# Altium footprint library BGA24C100P5X5_600X800X120.PcbLib: 1 footprints
Each footprint in its own frame and in the unit in brackets; x right, y up, seen from the top. Pads: shape width x height; smd on the part's side, far side on the other; paste and mask are expansions set on the pad; w line width, h text height; cw(c..) or ccw(c..) is an arc to the next point about the centre after c.
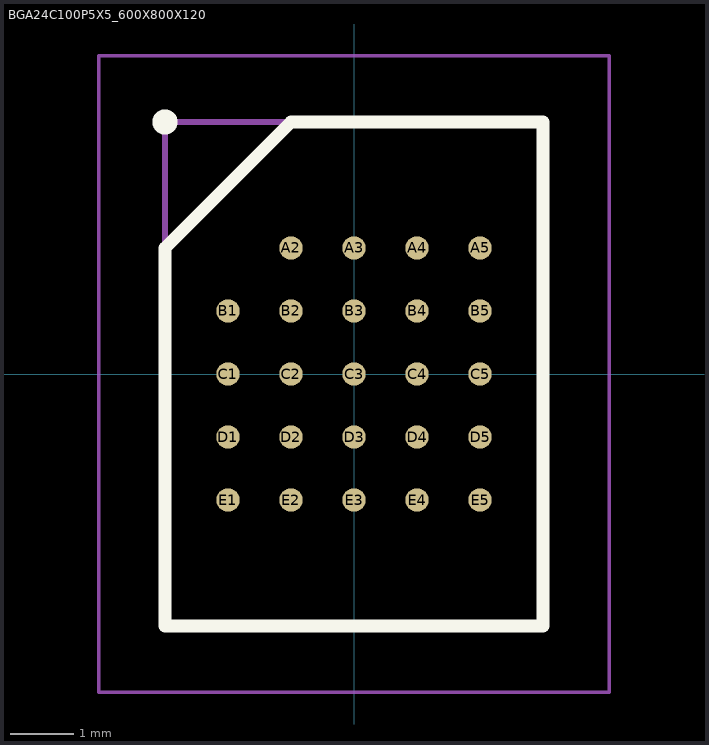
[diagram p0: the footprint, top view; thin cyan lines are the x and y axes]

## BGA24C100P5X5_600X800X120 [mm]
pads (24):
  round 0.37 smd: A2(-1,2) A3(0,2) A4(1,2) A5(2,2) B1(-2,1) B2(-1,1) B3(0,1) B4(1,1) B5(2,1) C1(-2,0) C2(-1,0) C3(0,0) C4(1,0) C5(2,0) D1(-2,-1) D2(-1,-1) D3(0,-1) D4(1,-1) D5(2,-1) E1(-2,-2) E2(-1,-2) E3(0,-2) E4(1,-2) E5(2,-2)
Top Overlay:
  circle w0.2: c-3,4 r0.1
  lines w0.2: -3,-4 3,-4 3,4 -1,4 -3,2 -3,-4
Mechanical 15:
  lines w0.1: -3,1.975 -0.975,4 ; -3,-4 3,-4 3,4 -3,4 -3,-4
Mechanical 20:
  lines w0.05: -4.05,-5.05 4.05,-5.05 4.05,5.05 -4.05,5.05 -4.05,-5.05